# EAGLE library part NRF51822_QFN48 (library custom)
Bluetooth 4.0 Low Energy/2.4Ghz NORDIC SEMICONDUCTOR
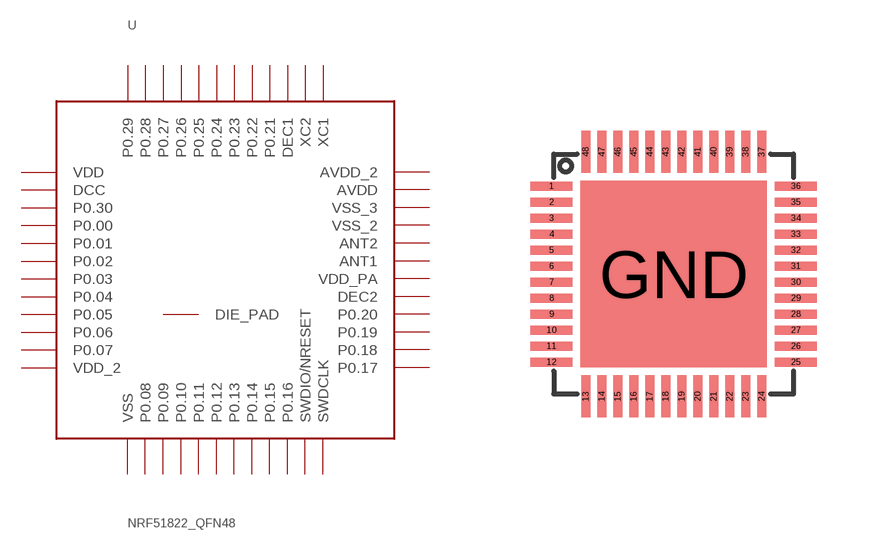
[diagram p14: symbol with the pads of QFN48; footprint QFN48]

Designator prefix U

## NRF51822_QFN48  [QFN48]
1  VDD
2  DCC
3  P0.30
4  P0.00
5  P0.01
6  P0.02
7  P0.03
8  P0.04
9  P0.05
10  P0.06
11  P0.07
12  VDD_2
13  VSS
14  P0.08
15  P0.09
16  P0.10
17  P0.11
18  P0.12
19  P0.13
20  P0.14
21  P0.15
22  P0.16
23  SWDIO/NRESET
24  SWDCLK
25  P0.17
26  P0.18
27  P0.19
28  P0.20
29  DEC2
30  VDD_PA
31  ANT1
32  ANT2
33  VSS_2
34  VSS_3
35  AVDD
36  AVDD_2
37  XC1
38  XC2
39  DEC1
40  P0.21
41  P0.22
42  P0.23
43  P0.24
44  P0.25
45  P0.26
46  P0.27
47  P0.28
48  P0.29
GND  DIE_PAD

## Footprint QFN48 (pad centres in mm)
smd 1.046 x 0.226: 1 -3.056,2.2; 2 -3.056,1.8; 3 -3.056,1.4; 4 -3.056,1; 5 -3.056,0.6; 6 -3.056,0.2; 7 -3.056,-0.2; 8 -3.056,-0.6; 9 -3.056,-1; 10 -3.056,-1.4; 11 -3.056,-1.8; 12 -3.056,-2.2; 25 3.056,-2.2; 26 3.056,-1.8; 27 3.056,-1.4; 28 3.056,-1; 29 3.056,-0.6; 30 3.056,-0.2; 31 3.056,0.2; 32 3.056,0.6; 33 3.056,1; 34 3.056,1.4; 35 3.056,1.8; 36 3.056,2.2
smd 0.226 x 1.046: 13 -2.2,-3.056; 14 -1.8,-3.056; 15 -1.4,-3.056; 16 -1,-3.056; 17 -0.6,-3.056; 18 -0.2,-3.056; 19 0.2,-3.056; 20 0.6,-3.056; 21 1,-3.056; 22 1.4,-3.056; 23 1.8,-3.056; 24 2.2,-3.056; 37 2.2,3.056; 38 1.8,3.056; 39 1.4,3.056; 40 1,3.056; 41 0.6,3.056; 42 0.2,3.056; 43 -0.2,3.056; 44 -0.6,3.056; 45 -1,3.056; 46 -1.4,3.056; 47 -1.8,3.056; 48 -2.2,3.056
smd 4.66 x 4.66: GND 0,0